# Altium schematic symbol library XPN9R614MC.Schlib: 1 symbol
Pins are listed as number, name and electrical type; pins without a type are passive.

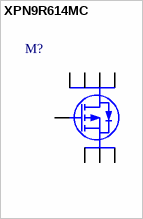
[diagram p0: symbol XPN9R614MC]

## XPN9R614MC
designator M?
40V 40A P-Channel
pins: 1 S, 2 S, 3 S, 4 G, 5 D, 6 D, 7 D, 8 D